# EAGLE library part 7508110331 (library WE-OLTI)
WE-OLTI Offline Flyback Transformers Characteristics Nominal input voltage: 85–265 VAC (120–375 VDC) Small size Low leakage inductance Multiple-output options Operating temperature: −40 °C to +125 °C Isolation Voltage: 2 kVAC to 5 kVAC Options for fixed frequency or quasi-resonant mode operation Most products meet reinforced insulation Applications Industrial controls USB chargers Utility metering devices Process controls Factory automation Security systems Garage door opener auxiliary supplies Home appliances Especially designed for several ICs from Texas Instruments Details see: www.we-online.com/en/components/products/WE-OLTI Created by Ella 2025-02-06 2025 (C) Würth Elektronik
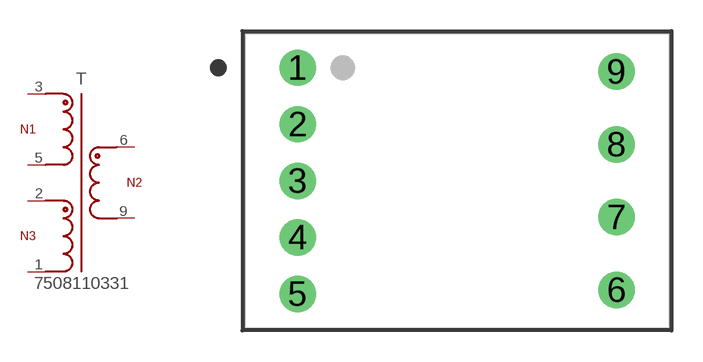
[diagram p10: symbol with the pads of WE-OLTI_EE13/7/4_L13.72W20.45H10.54; footprint WE-OLTI_EE13/7/4_L13.72W20.45H10.54]

Designator prefix T

## 7508110331 (AUXILIARY_VOLTAGE_1: 15 V; CATEGORY: Transformers; DATASHEET: https://www.we-online.com/redexpert/spec/7508110331?ae; HEIGHT: 10.54 mm; INDUCTANCE: 500 uH; INPUT_VOLTAGE: 85 - 265 V (AC); INSULATION_TEST_VOLTAGE: 3000 V (AC); LENGTH: 13.72 mm; MANUFACTURER: Würth Elektronik; MOUNT: THT; MPN: 7508110331; OUTPUT_CURRENT_1: 250 mA; OUTPUT_VOLTAGE_1: 15 V; SATURATION_CURRENT: 0.5 A; SIZE: EE13/7/4; SWITCHING-FREQUENCY: 130kHz; TURNS_RATIO: 3.25:1:1; VALUE: 500 uH; WIDTH: 20.45 mm)  [WE-OLTI_EE13/7/4_L13.72W20.45H10.54]
1  1  pas
2  2  pas
3  3  pas
5  5  pas
6  6  pas
9  9  pas

## Footprint WE-OLTI_EE13/7/4_L13.72W20.45H10.54 (pad centres in mm)
WE-OLTI Offline Flyback Transformers Size: EE13/7/4,THT,9pins LXWXH=13.72X20.45X10.54mm Bobbin: 070-5662
drill 1.17: 1 -7.675,5.44; 2 -7.675,2.72; 3 -7.675,0; 4 -7.675,-2.72; 5 -7.675,-5.44; 6 7.675,-5.25; 7 7.675,-1.75; 8 7.675,1.75; 9 7.675,5.25